# Altium schematic symbol library TSW-101-23-S-T.SchLib: 1 symbol
Pins are listed as number, name and electrical type; pins without a type are passive.

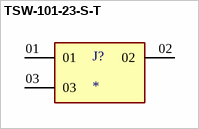
[diagram p0: symbol TSW-101-23-S-T]

## TSW-101-23-S-T
designator J?
MP: TSW-101-23-S-T; Package: None; Price: None; Value: *; Availability: Unavailable
footprint SAMTEC_TSW-101-23-S-T
pins: 01, 02, 03